# EAGLE library part MAX1614 (library max1614)
edit this description Auto generated by make-symbol-device-package-bsdl.ulp Rev. 43 Source:
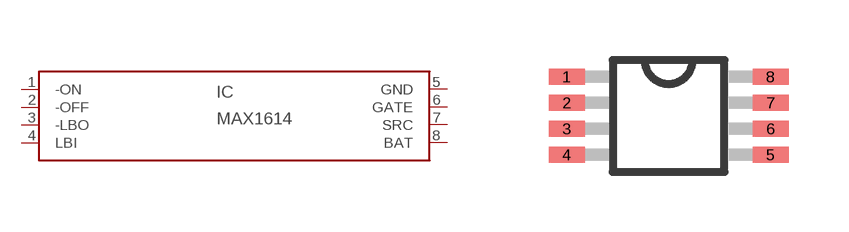
[diagram p0: symbol with the pads of UMAX8; footprint UMAX8]

Designator prefix IC

## MAX1614  [UMAX8]
1  -ON  in
2  -OFF  in
3  -LBO  out
4  LBI  in
5  GND  pwr
6  GATE  out
7  SRC  in
8  BAT  pwr

## Footprint UMAX8 (pad centres in mm)
UMAX8 Auto generated by make-symbol-device-package-bsdl.ulp Rev. 43
smd 0.9 x 0.4: 1 -2.55,0.975; 2 -2.55,0.325; 3 -2.55,-0.325; 4 -2.55,-0.975; 5 2.55,-0.975; 6 2.55,-0.325; 7 2.55,0.325; 8 2.55,0.975